# Altium footprint library IND0805.PcbLib: 1 footprints
Each footprint in its own frame and in the unit in brackets; x right, y up, seen from the top. Pads: shape width x height; smd on the part's side, far side on the other; paste and mask are expansions set on the pad; w line width, h text height; cw(c..) or ccw(c..) is an arc to the next point about the centre after c.
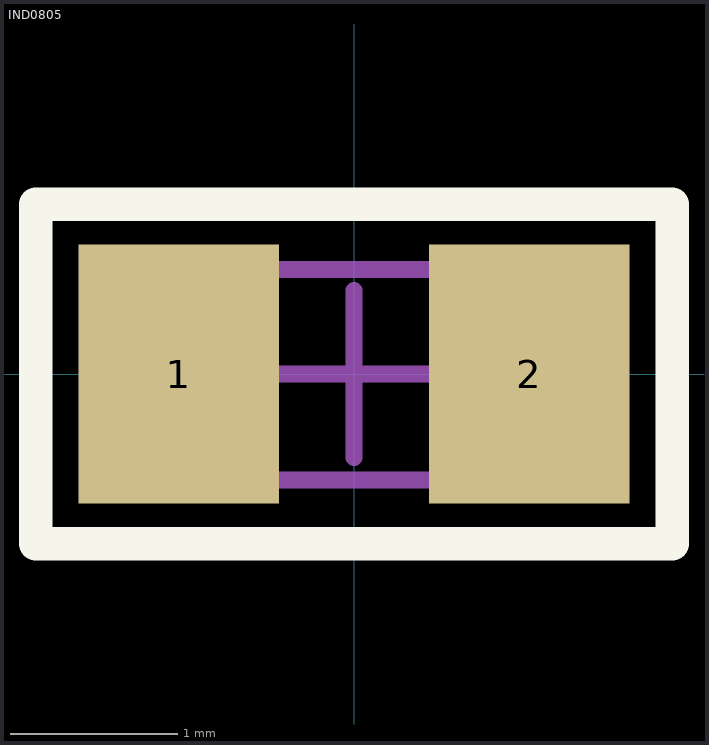
[diagram p0: the footprint, top view; thin cyan lines are the x and y axes]

## IND0805 [mm]
pads (2):
  rect 1.2x1.55 smd: 1(-1.05,0) 2(1.05,0)
Top Overlay:
  lines w0.2: -1.905,-1.016 1.905,-1.016 1.905,1.016 -1.905,1.016 -1.905,-1.016
Mechanical 1:
  lines w0.1: -1,-0.635 -1,0.625 1.016,0.625 1.016,-0.635 -1,-0.635
  text ".Designator" at -0.619,-0.272 h1
Mechanical 13:
  lines w0.1: -1.016,-0.635 1.016,-0.635 1.016,0.625 -1.016,0.625 -1.016,-0.635
Mechanical 15:
  lines w0.05: -1.905,-1 1.905,-1 1.905,1 -1.905,1 -1.905,-1
  lines w0.1: -0.5,0 0.5,0 ; 0,-0.5 0,0.5
3D body "0805-CAP.stp": height 1.4, standoff 0, extent -1,-0.625 1,0.625